# Altium integrated library Linear Technology Power Management Switching Regulator LTC1174-LTC3901.IntLib: 2647 symbols (part 109 of 364)
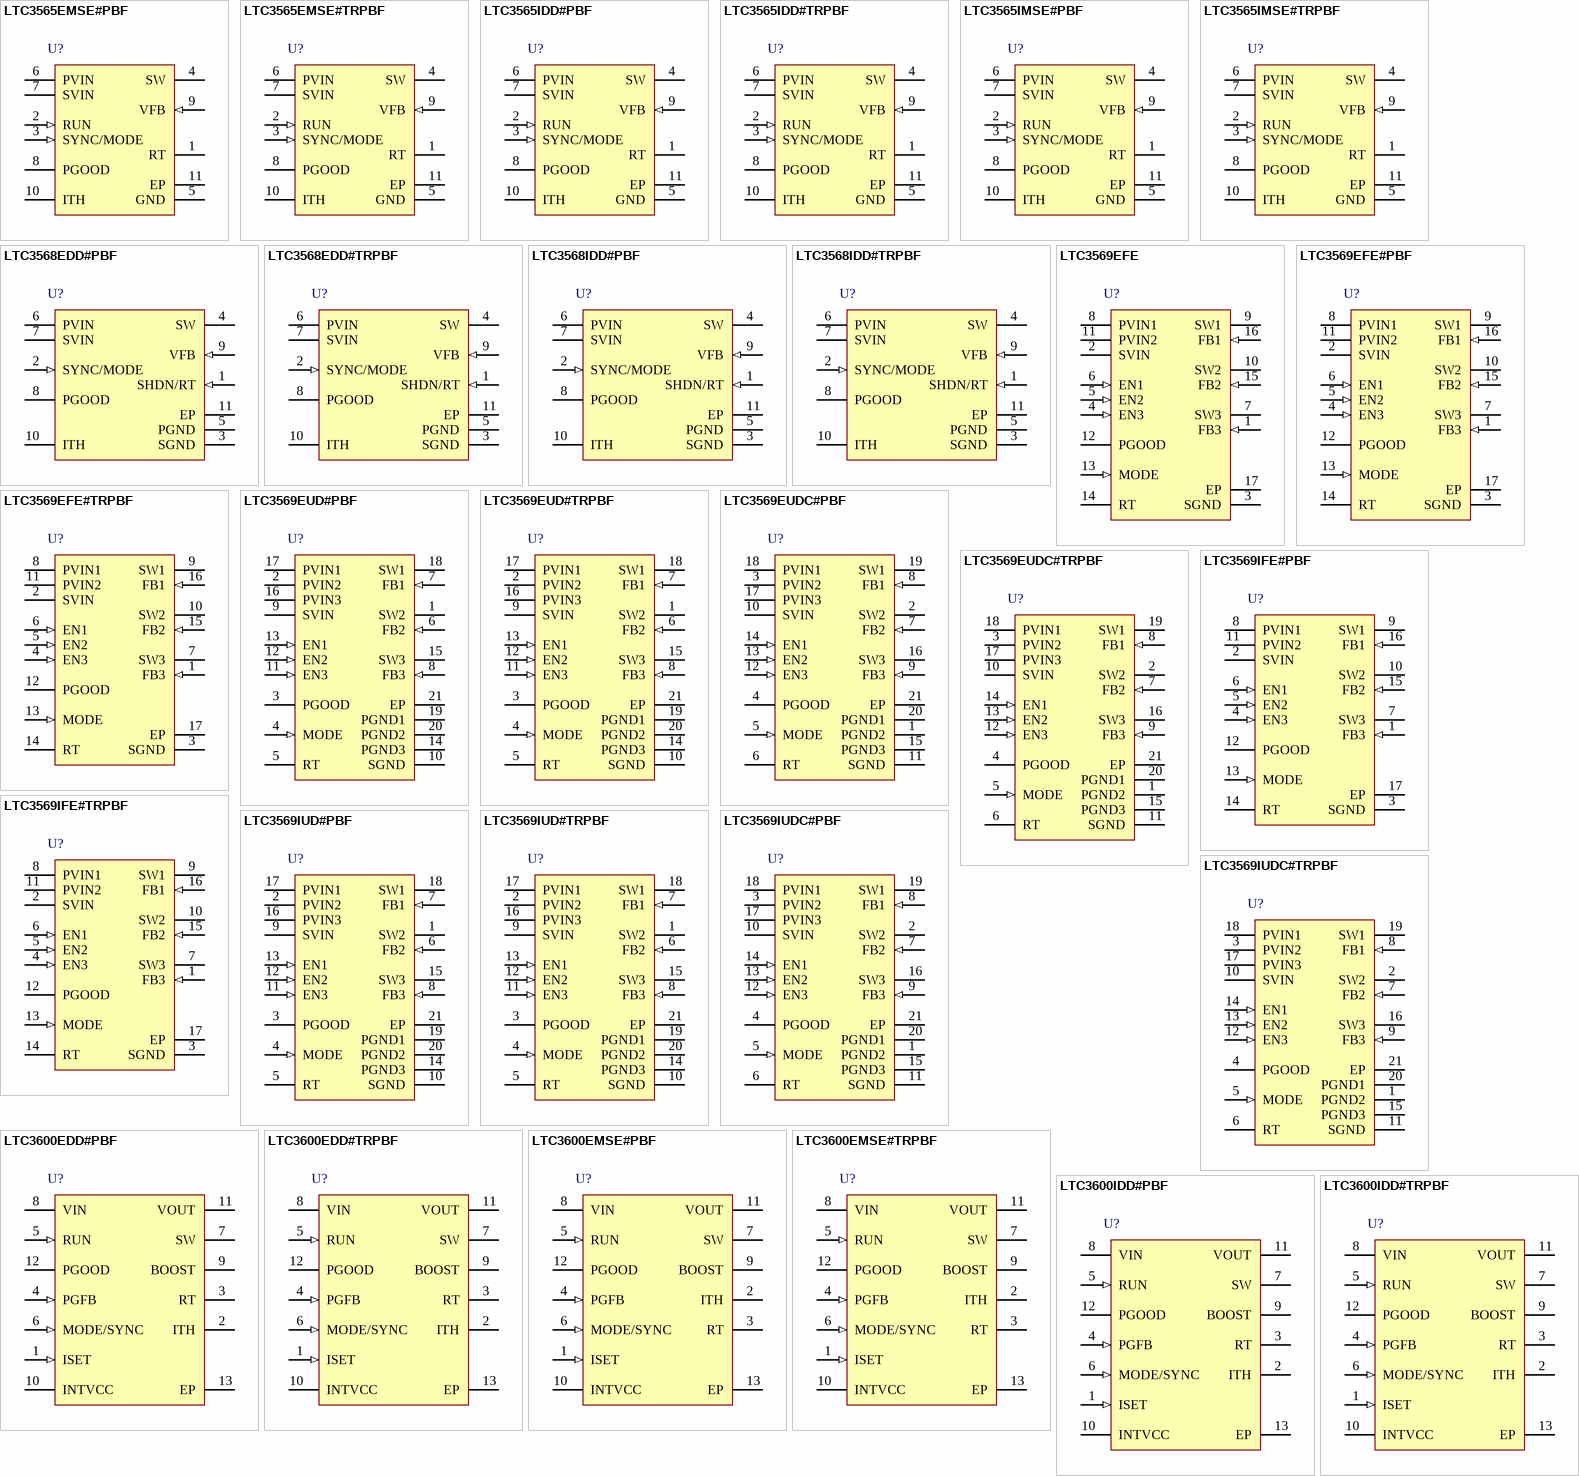
[diagram p270: symbols LTC3565EMSE#PBF to LTC3600IDD#TRPBF]

## LTC3569IFE#TRPBF
designator U?
Triple Buck Regulator with 1.2 A and Two 600 mA Outputs and Individual Programmable References, 16-pin SOP (FE-16-EPV-BA), -40 to 125 degC, Pb-Free, Tape and Reel; Manufacturer: Linear Technology; PartNumber: LTC3569IFE#TRPBF; Frequency Adjust Range: 1MHz - 3MHz; Number of Outputs: 3; DatasheetVersion: Rev. D; PackageVersion: Rev. I, 05/2011; PackageReference: FE-16; PackageDescription: 16-Pin Plastic TSSOP, Body 5 x 4.4 mm, Pitch 0.65 mm; Supplier 1: Digi-Key; Supplier Part Number 1: LTC3569IFE#TRPBF-ND; Packing: Tape and Reel; RoHS: TRUE; Mounting Technology: Surface Mount; ComponentLink1Description: Manufacturer URL; ComponentLink1URL: http://www.linear.com/; ComponentLink2Description: Datasheet; ComponentLink2URL: http://cds.linear.com/docs/en/datasheet/3569fd.pdf; ComponentLink3Description: Package Specification; ComponentLink3URL: http://cds.linear.com/docs/en/packaging/05081663_J_FE16(BA).pdf
footprint LT-FE-16-EPV-BA_N (SOP, 16-Leads, Body 5x4.4mm, Pitch 0.65mm, Thermal Pad 2.74x2.74mm, IPC Medium Density)
footprint LT-FE-16-EPV-BA_L (SOP, 16-Leads, Body 5x4.4mm, Pitch 0.65mm, Thermal Pad 2.74x2.74mm, IPC High Density)
footprint LT-FE-16-EPV-BA_M (SOP, 16-Leads, Body 5x4.4mm, Pitch 0.65mm, Thermal Pad 2.74x2.74mm, IPC Low Density)
pins: 1 FB3 (in) "Receives the feedback voltage from the external resistive divider across the output of Buck 3. Nominal voltage for this pin is programmed with the EN3 pin from 800mV down to 425mV. When pulled to SVIN, Buck 3 is put into (See Datasheet)", 2 SVIN (power) "Main Supply Pin. Decouple to SGND with a low ESR 1uF capacitor.", 3 SGND (power) "Main Ground Pin. Decouple to SVIN.", 4 EN3 (in) "Enable Pin for Buck 3. Toggle up to 15 times to program reference feedback level from 800mV down to 425mV.", 5 EN2 (in) "Enable Pin for Buck 2. Toggle up to 15 times to program reference feedback level from 800mV down to 425mV.", 6 EN1 (in) "Enable Pin for Buck 1. Toggle up to 15 times to program reference feedback level from 800mV down to 425mV.", 7 SW3 (power) "Buck 3 Switch. Connect to the Inductor for Buck 3. This pin swings from PVIN3 to PGND3.", 8 PVIN1 (power) "Main Supply Pin for Buck 1. Decouple to PGND1 with a low ESR 4.7uF capacitor, CIN1. Decoupling capacitors should be summed where power supply pins are shared.", 9 SW1 (power) "Buck 1 Switch. Connect to the Inductor for Buck 1. This pin swings from PVIN1 to PGND1.", 10 SW2 (power) "Buck 2 Switch. Connect to the Inductor for Buck 2. This pin swings from PVIN2 to PGND2.", 11 PVIN2 (power) "Main Supply Pin for Buck 2. Decouple to PGND2 with a low ESR 4.7uF capacitor, CIN2. Decoupling capacitors should be summed where power supply pins are shared.", 12 PGOOD (oc) "The Power Good Pin. This open-drain output is released when an enabled output has risen to within 8% of the regulation voltage. When multiple outputs are enabled, PGOOD is the logical AND of each internal PGOOD.", 13 MODE (in) "Combination Mode Selection and Oscillator Synchronization Pin. This pin controls the operating mode of the device. When tied to SVIN, Burst Mode operation is selected. When tied to SGND, pulse-skipping mode is selected. The (See Datasheet)", 14 RT "Timing Resistor Pin. The free-running oscillator frequency is programmed by connecting a resistor from this pin to ground. Tie to SVIN to get a fixed 2.25MHz operating frequency.", 15 FB2 (in) "Receives the feedback voltage from the external resistive divider across the output of Buck 2. Nominal voltage for this pin is programmed with the EN2 pin from 800mV down to 425mV. When pulled to SVIN, Buck 2 is put into (See Datasheet)", 16 FB1 (in) "Receives the feedback voltage from the external resistive divider across the output of Buck 1. Nominal voltage for this pin is programmed with the EN1 pin from 800mV down to 425mV.", 17 EP (power) "The exposed pad must be connected to PCB ground for rated thermal performance and for electrical connection in the TSSOP package."

## LTC3569IUD#PBF
designator U?
Triple Buck Regulator with 1.2 A and Two 600 mA Outputs and Individual Programmable References, 20-pin QFN (UD-20), -40 to 125 degC, Pb-Free; Manufacturer: Linear Technology; PartNumber: LTC3569IUD#PBF; Frequency Adjust Range: 1MHz - 3MHz; Number of Outputs: 3; DatasheetVersion: Rev. D; PackageVersion: Rev. A, 06/2010; PackageReference: UD-20; PackageDescription: 20-Pin Plastic QFN, Body 3 x 3 mm, Pitch 0.4 mm; Supplier 1: Digi-Key; Supplier Part Number 1: LTC3569IUD#PBF-ND; RoHS: TRUE; Mounting Technology: Surface Mount; ComponentLink1Description: Manufacturer URL; ComponentLink1URL: http://www.linear.com/; ComponentLink2Description: Datasheet; ComponentLink2URL: http://cds.linear.com/docs/en/datasheet/3569fd.pdf; ComponentLink3Description: Package Specification; ComponentLink3URL: http://cds.linear.com/docs/en/packaging/QFN_20_05-08-1720.pdf
footprint LT-UD-20_N (QFN, 20-Leads, Body 3.1x3.1mm, Pitch 0.4mm, Thermal Pad 1.65x1.65mm, IPC Medium Density)
footprint LT-UD-20_L (QFN, 20-Leads, Body 3.1x3.1mm, Pitch 0.4mm, Thermal Pad 1.65x1.65mm, IPC High Density)
footprint LT-UD-20_M (QFN, 20-Leads, Body 3.1x3.1mm, Pitch 0.4mm, Thermal Pad 1.65x1.65mm, IPC Low Density)
pins: 1 SW2 (power) "Buck 2 Switch. Connect to the Inductor for Buck 2. This pin swings from PVIN2 to PGND2.", 2 PVIN2 (power) "Main Supply Pin for Buck 2. Decouple to PGND2 with a low ESR 4.7uF capacitor, CIN2. Decoupling capacitors should be summed where power supply pins are shared.", 3 PGOOD (oc) "The Power Good Pin. This open-drain output is released when an enabled output has risen to within 8% of the regulation voltage. When multiple outputs are enabled, PGOOD is the logical AND of each internal PGOOD.", 4 MODE (in) "Combination Mode Selection and Oscillator Synchronization Pin. This pin controls the operating mode of the device. When tied to SVIN, Burst Mode operation is selected. When tied to SGND, pulse-skipping mode is selected. The (See Datasheet)", 5 RT "Timing Resistor Pin. The free-running oscillator frequency is programmed by connecting a resistor from this pin to ground. Tie to SVIN to get a fixed 2.25MHz operating frequency.", 6 FB2 (in) "Receives the feedback voltage from the external resistive divider across the output of Buck 2. Nominal voltage for this pin is programmed with the EN2 pin from 800mV down to 425mV. When pulled to SVIN, Buck 2 is put into (See Datasheet)", 7 FB1 (in) "Receives the feedback voltage from the external resistive divider across the output of Buck 1. Nominal voltage for this pin is programmed with the EN1 pin from 800mV down to 425mV.", 8 FB3 (in) "Receives the feedback voltage from the external resistive divider across the output of Buck 3. Nominal voltage for this pin is programmed with the EN3 pin from 800mV down to 425mV. When pulled to SVIN, Buck 3 is put into (See Datasheet)", 9 SVIN (power) "Main Supply Pin. Decouple to SGND with a low ESR 1uF capacitor.", 10 SGND (power) "Main Ground Pin. Decouple to SVIN.", 11 EN3 (in) "Enable Pin for Buck 3. Toggle up to 15 times to program reference feedback level from 800mV down to 425mV", 12 EN2 (in) "Enable Pin for Buck 2. Toggle up to 15 times to program reference feedback level from 800mV down to 425mV.", 13 EN1 (in) "Enable Pin for Buck 1. Toggle up to 15 times to program reference feedback level from 800mV down to 425mV.", 14 PGND3 (power) "Main Power Ground Pin for Buck 3. Connect to the (-) terminal of the output capacitor for Buck3, and (-) terminal of CIN3. Decoupling capacitors should be summed where power supply pins are shared.", 15 SW3 (power) "Buck 3 Switch. Connect to the Inductor for Buck 3. This pin swings from PVIN3 to PGND3.", 16 PVIN3 (power) "Main Supply Pin for Buck 3. Decouple to PGND3 with a low ESR 4.7uF capacitor, CIN3. Decoupling capacitors should be summed where power supply pins are shared.", 17 PVIN1 (power) "Main Supply Pin for Buck 1. Decouple to PGND1 with a low ESR 4.7uF capacitor, CIN1. Decoupling capacitors should be summed where power supply pins are shared.", 18 SW1 (power) "Buck 1 Switch. Connect to the Inductor for Buck 1. This pin swings from PVIN1 to PGND1.", 19 PGND1 (power) "Main Power Ground Pin for Buck 1. Connect to the (-) terminal of the output capacitor for Buck1, and (-) terminal of CIN1. Decoupling capacitors should be summed where power supply pins are shared.", 20 PGND2 (power) "Main Power Ground Pin for Buck 2. Connect to the (-) terminal of the output capacitor for Buck2, and (-) terminal of CIN2. Decoupling capacitors should be summed where power supply pins are shared.", 21 EP (power) "The exposed pad must be connected to PCB ground for rated thermal performance and for electrical connection in the TSSOP package."